# EAGLE library part 315-5208 (library 2010.09.20)
Sega 315-5208 Paging Chip Overview The 315-5208 is a memory mapper manufactured by Sega. It comes in a 28-pin plastic DIP. The 315-5208 paging chip can handle up to 8 × 16KByte memory pages, making it suitable for use with 1 Megabit games. The commercial SMS cartridges that use the 315-5208 for paging use a ROM chip with model number 831000. The 831000 is a 28-pin 256K× 8 ROM chip. Features ROM capacity of 128K ROM banking in $8000-$BFFF Typical ROM configuration with this chip: ROM /OE = Ground ROM /CS = /ROM_CS Register functions $FFFF - Bank select for $8000-$BFFF D2 : Bank address, bit 16 D1 : Bank address, bit 15 D0 : Bank address, bit 14 Replacing a #831000 ROM with an #27010 EPROM A 28-pin #831000 ROM can be replaced with a #27010 32-pin 1 Megabit EPROM. The followingtable indicates the correct pin mapping. 831000 ROM Pin 27010 EPROM Pin 1-14 3-16 15-21 17-23 23-28 25-30 22 2 Connect pins 1, 31, and 32 of the 27010 EPROM to +5v, and pin 24 to GROUND. Information in this document <http://www.smspower.org/Development/SMSPagingChips#The3155208PagingChip> is compiled from postings by Mike G. and Charles Mac Donald on the S8-Dev Forum <http://www.smspower.org/forums/viewforum.php?f=3&sid=bd04805781e762a1d000575466c5f495>, and from personal investigations by Zoop and Eric Quinn. Additional information taken from an unpublished work by (Charles MacDonald) and his webpage http://cgfm2.emuviews.com/ Drawn in Eagle by Darren Lue Choy 2010.09.20, updated description 2011.01.19
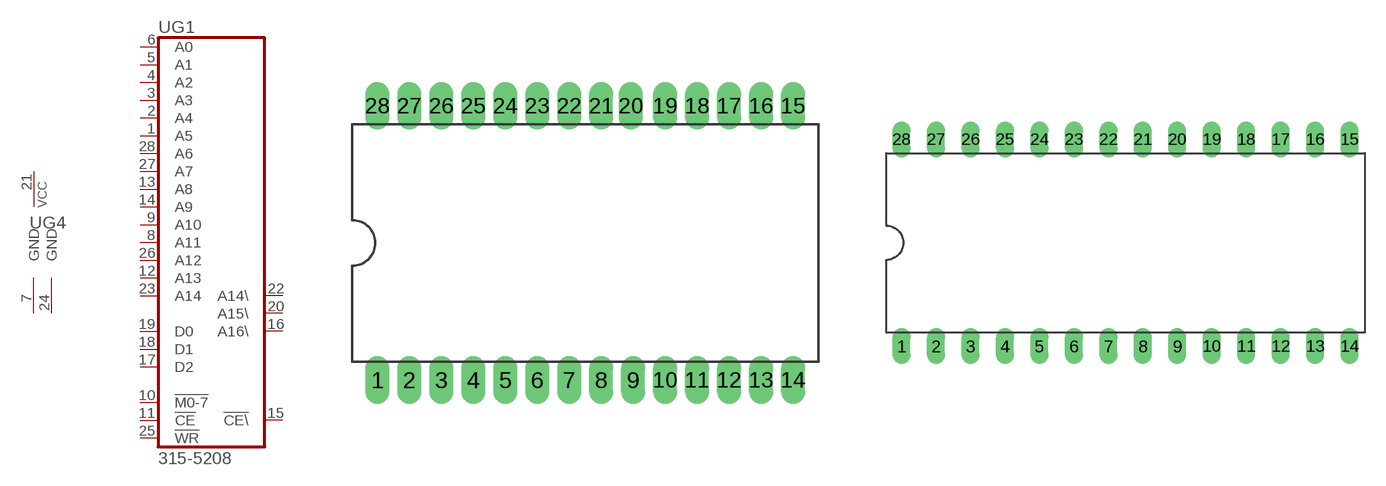
[diagram p2: symbol with the pads of DIL28-6.07; footprints DIL28-6.07, DIL28-6]

Designator prefix -; gates G1=315-5208 G2=PWRGND G3=PWRGND G4=PWRVCC

## 315-5208-6.07  [DIL28-6.07]
1  G1:A5  in
2  G1:A4  in
3  G1:A3  in
4  G1:A2  in
5  G1:A1  in
6  G1:A0  in
7  G2:GND  pwr
8  G1:A11  in
9  G1:A10  in
10  G1:!M0-7  in
11  G1:!CE  in
12  G1:A13  in
13  G1:A8  in
14  G1:A9  in
15  G1:!CE\  out
16  G1:A16\  out
17  G1:D2  in
18  G1:D1  in
19  G1:D0  in
20  G1:A15\  out
21  G4:VCC  pwr
22  G1:A14\  out
23  G1:A14  in
24  G3:GND  pwr
25  G1:!WR  in
26  G1:A12  in
27  G1:A7  in
28  G1:A6  in

## 315-5208  [DIL28-6]
Pads as for DIL28-6.07

## Footprint DIL28-6.07 (pad centres in mm)
Dual In Line Package 0.6 inch 0.07 pitch Drawn by D Lue Choy µ 2010.09.20
drill 0.813 long: 1 -11.557,-7.62; 2 -9.779,-7.62; 3 -8.001,-7.62; 4 -6.223,-7.62; 5 -4.445,-7.62; 6 -2.667,-7.62; 7 -0.889,-7.62; 8 0.889,-7.62; 9 2.667,-7.62; 10 4.445,-7.62; 11 6.223,-7.62; 12 8.001,-7.62; 13 9.779,-7.62; 14 11.557,-7.62; 15 11.557,7.62; 16 9.779,7.62; 17 8.001,7.62; 18 6.223,7.62; 19 4.445,7.62; 20 2.54,7.62; 21 0.889,7.62; 22 -0.889,7.62; 23 -2.667,7.62; 24 -4.445,7.62; 25 -6.223,7.62; 26 -8.001,7.62; 27 -9.779,7.62; 28 -11.557,7.62

## Footprint DIL28-6 (pad centres in mm)
Dual In Line Package 0.6 inch
drill 0.813 long: 1 -16.51,-7.62; 2 -13.97,-7.62; 3 -11.43,-7.62; 4 -8.89,-7.62; 5 -6.35,-7.62; 6 -3.81,-7.62; 7 -1.27,-7.62; 8 1.27,-7.62; 9 3.81,-7.62; 10 6.35,-7.62; 11 8.89,-7.62; 12 11.43,-7.62; 13 13.97,-7.62; 14 16.51,-7.62; 15 16.51,7.62; 16 13.97,7.62; 17 11.43,7.62; 18 8.89,7.62; 19 6.35,7.62; 20 3.81,7.62; 21 1.27,7.62; 22 -1.27,7.62; 23 -3.81,7.62; 24 -6.35,7.62; 25 -8.89,7.62; 26 -11.43,7.62; 27 -13.97,7.62; 28 -16.51,7.62